# Altium footprint library AVX Corporation.PcbLib: 18 footprints (part 2 of 2)
Each footprint in its own frame and in the unit in brackets; x right, y up, seen from the top. Pads: shape width x height; smd on the part's side, far side on the other; paste and mask are expansions set on the pad; w line width, h text height; cw(c..) or ccw(c..) is an arc to the next point about the centre after c.
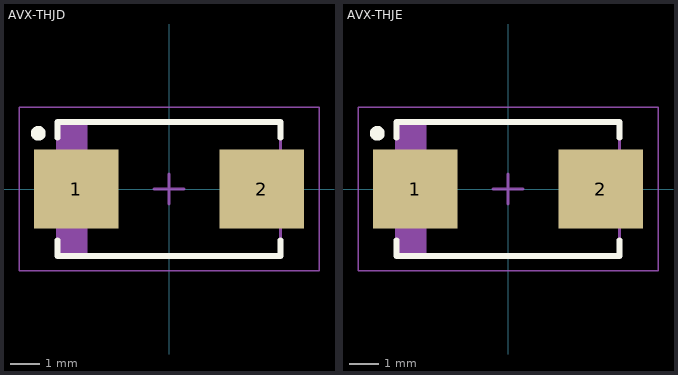
[diagram p1: the footprints below, top view; thin cyan lines are the x and y axes]

## AVX-THJD [mm] "Molded Capacitor, 2-Leads, Body 7.30x4.35mm, IPC Low Density"
height 3.1
pads (2):
  rect 2.85x2.65 smd: 1(-3.125,0) 2(3.125,0)
Top Overlay:
  circle w0.25: c-4.4,1.875 r0.125
  lines w0.2: -3.75,-1.725 -3.75,-2.25 3.75,-2.25 3.75,-1.725 ; -3.75,1.725 -3.75,2.25 3.75,2.25 3.75,1.725
Mechanical 13:
  rectangle: -3.75,-2.25 -2.741,2.25
  lines w0.1: -3.75,-2.25 -3.75,2.25 3.75,2.25 3.75,-2.25 -3.75,-2.25
Mechanical 15:
  lines w0.05: -5.05,-2.75 -5.05,2.75 5.05,2.75 5.05,-2.75 -5.05,-2.75
  lines w0.1: -0.5,0 0.5,0 ; 0,-0.5 0,0.5
3D body: height 3.1, standoff 0, extent -3.75,-2.25 3.75,2.25

## AVX-THJE [mm] "Molded Capacitor, 2-Leads, Body 7.30x4.35mm, IPC Low Density"
height 4.3
pads (2):
  rect 2.85x2.65 smd: 1(-3.125,0) 2(3.125,0)
Top Overlay:
  circle w0.25: c-4.4,1.875 r0.125
  lines w0.2: -3.75,-1.725 -3.75,-2.25 3.75,-2.25 3.75,-1.725 ; -3.75,1.725 -3.75,2.25 3.75,2.25 3.75,1.725
Mechanical 13:
  rectangle: -3.75,-2.25 -2.741,2.25
  lines w0.1: -3.75,-2.25 -3.75,2.25 3.75,2.25 3.75,-2.25 -3.75,-2.25
Mechanical 15:
  lines w0.05: -5.05,-2.75 -5.05,2.75 5.05,2.75 5.05,-2.75 -5.05,-2.75
  lines w0.1: -0.5,0 0.5,0 ; 0,-0.5 0,0.5
3D body: height 4.3, standoff 0, extent -3.75,-2.25 3.75,2.25